# EAGLE library part JTAG (library custom-connectors)
JTAG Connector
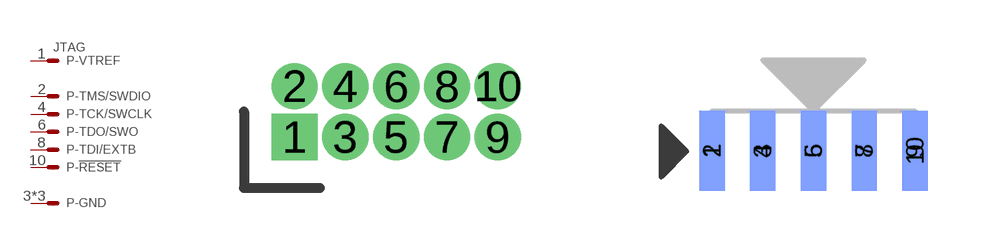
[diagram p2: symbol with the pads of FTSH-105-01-XXX-DV; footprints FTSH-105-01-XXX-DV, FTSH-105-01-XXX-DV-EDGE]

Designator prefix P; gates -VTREF=MV -TMS/SWDIO=M -TCK/SWCLK=M -TDO/SWO=M -TDI/EXTB=M -!RESET=M -GND=M

## JTAG_TH (DIGI-KEY: 952-1383-ND; MOUSER: 855-M50-3500542; TEMPERATURE: -40°C to 105°C)  [FTSH-105-01-XXX-DV]
1  -VTREF:S  pas
2  -TMS/SWDIO:S  pas
3  -GND:S  pas
4  -TCK/SWCLK:S  pas
5  -GND:S  pas
6  -TDO/SWO:S  pas
8  -TDI/EXTB:S  pas
9  -GND:S  pas
10  -!RESET:S  pas

## JTAG_EDGE_M (DIGI-KEY: 952-1383-ND; MOUSER: 855-M50-3500542; TEMPERATURE: -40°C to 105°C)  [FTSH-105-01-XXX-DV-EDGE]
Pads as for FTSH-105-01-XXX-DV

## JTAG_2X10 (DIGI-KEY: S9180-ND)  [2X10_LOCK]
1  -VTREF:S  pas
2  -VTREF:S  pas
4  -GND:S  pas
5  -TDI/EXTB:S  pas
6  -GND:S  pas
7  -TMS/SWDIO:S  pas
8  -GND:S  pas
9  -TCK/SWCLK:S  pas
10  -GND:S  pas
12  -GND:S  pas
13  -TDO/SWO:S  pas
14  -GND:S  pas
15  -!RESET:S  pas
16  -GND:S  pas
18  -GND:S  pas
20  -GND:S  pas

## JTAG_EDGE_F (DIGI-KEY: 952-1365-5-ND; MOUSER: 855-M50-3000545)  [FTSH-105-01-XXX-DV-EDGE]
1  -TMS/SWDIO:S  pas
2  -VTREF:S  pas
3  -TCK/SWCLK:S  pas
4  -GND:S  pas
5  -TDO/SWO:S  pas
6  -GND:S  pas
7  -TDI/EXTB:S  pas
9  -!RESET:S  pas
10  -GND:S  pas

## JTAG_SMD (DIGI-KEY: 952-1389-ND; MOUSER: 855-M50-3600542)  [FTSH-105-01-XXX-DV-K]
Pads as for FTSH-105-01-XXX-DV

## Footprint FTSH-105-01-XXX-DV (pad centres in mm)
drill 0.65 pad 1 square: 1 0,0
drill 0.65 pad 1: 2 0,1.27; 3 1.27,0; 4 1.27,1.27; 5 2.54,0; 6 2.54,1.27; 7 3.81,0; 8 3.81,1.27; 9 5.08,0; 10 5.08,1.27

## Footprint FTSH-105-01-XXX-DV-EDGE (pad centres in mm)
smd 0.635 x 2: 1 -2.54,-1; 3 -1.27,-1; 5 0,-1; 7 1.27,-1; 9 2.54,-1
smd 0.635 x 2 bottom: 2 -2.54,-1; 4 -1.27,-1; 6 0,-1; 8 1.27,-1; 10 2.54,-1

## Footprint 2X10_LOCK (pad centres in mm)
drill 1 square: 1 -11.43,-1.27
drill 1: 2 -11.43,1.27; 3 -8.89,-1.397; 4 -8.89,1.143; 5 -6.35,-1.27; 6 -6.35,1.27; 7 -3.81,-1.397; 8 -3.81,1.143; 9 -1.27,-1.27; 10 -1.27,1.27; 11 1.27,-1.397; 12 1.27,1.143; 13 3.81,-1.27; 14 3.81,1.27; 15 6.35,-1.397; 16 6.35,1.143; 17 8.89,-1.27; 18 8.89,1.27; 19 11.43,-1.397; 20 11.43,1.143

## Footprint FTSH-105-01-XXX-DV-K (pad centres in mm)
TERMINAL STRIP, .050 inch(1.27mm) PITCH, 10 PINS, KEYED
smd 0.635 x 2.54: 1 -2.54,-2.032; 2 -2.54,2.032; 3 -1.27,-2.032; 4 -1.27,2.032; 5 0,-2.032; 6 0,2.032; 7 1.27,-2.032; 8 1.27,2.032; 9 2.54,-2.032; 10 2.54,2.032